# Altium footprint library 聚丙烯膜电容(CBB).PcbLib: 7 footprints
Each footprint in its own frame and in the unit in brackets; x right, y up, seen from the top. Pads: shape width x height; smd on the part's side, far side on the other; paste and mask are expansions set on the pad; w line width, h text height; cw(c..) or ccw(c..) is an arc to the next point about the centre after c.
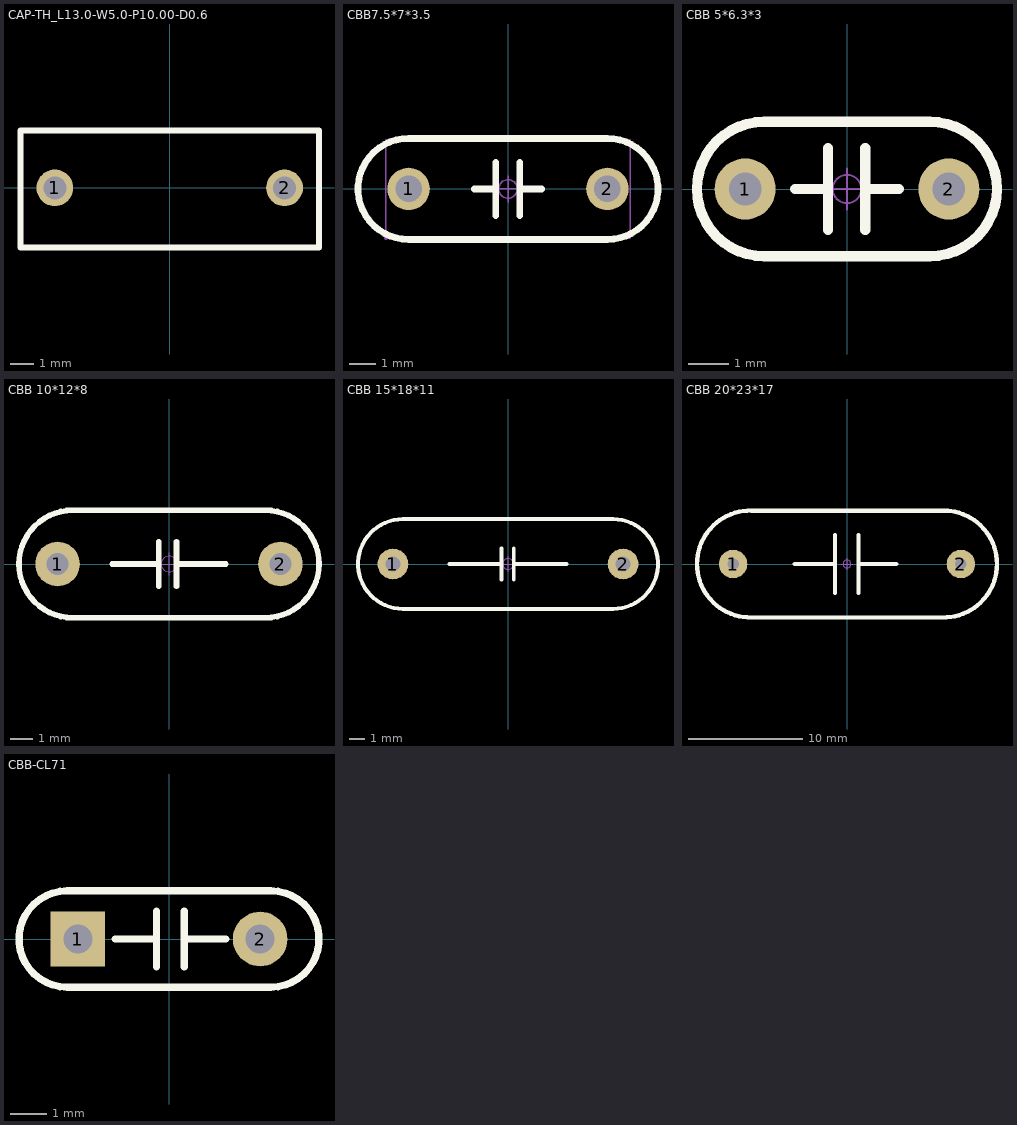
[diagram p0: the footprints below, top view; thin cyan lines are the x and y axes]

## CAP-TH_L13.0-W5.0-P10.00-D0.6 [mm]
pads (2):
  round 1.6 hole 1: 1(-5,0) 2(5,0)
Top Overlay:
  lines w0.254: -6.5,-2.6 6.5,-2.6 ; -6.5,-2.5 -6.5,2.5 6.5,2.5 6.5,-2.5
Mechanical 15:
  region: -6.44,-2.5 -6.44,-2.475 -6.475,-2.44 -6.525,-2.44 -6.56,-2.475 -6.56,-2.5 -6.56,-2.525 -6.525,-2.56 -6.475,-2.56 -6.44,-2.525 -6.44,-2.5
  region: 5.3,0 5.299,0.059 5.252,0.167 5.168,0.25 5.059,0.295 4.941,0.295 4.832,0.25 4.748,0.167 4.701,0.059 4.7,0 4.701,-0.059 4.748,-0.167 4.832,-0.25 4.941,-0.295 5.059,-0.295 5.168,-0.25 5.252,-0.167 5.299,-0.059 5.3,0
  region: -4.7,0 -4.701,0.059 -4.748,0.167 -4.832,0.25 -4.941,0.295 -5.059,0.295 -5.168,0.25 -5.252,0.167 -5.299,0.059 -5.3,0 -5.299,-0.059 -5.252,-0.167 -5.168,-0.25 -5.059,-0.295 -4.941,-0.295 -4.832,-0.25 -4.748,-0.167 -4.701,-0.059 -4.7,0
  lines w0.051: -6.5,-2.5 6.5,-2.5 6.5,2.5 -6.5,2.5 -6.5,-2.5
3D body "C6.step": height 11, standoff -3.5, extent -6.5,-2.5 6.5,2.501

## CBB7.5*7*3.5 [mm] "脚距7.5mm高7mm厚3.5mm"
pads (2):
  round 1.6 hole 1: 1(-3.75,0) 2(3.75,0)
Top Overlay:
  lines w0.254: -3.75,-1.905 cw(c-3.75,0) -3.75,1.905 ; -3.683,-1.905 3.683,-1.905 ; -3.683,1.905 3.683,1.905 ; -1.27,0 -0.555,0 ; -0.466,-1 -0.466,1 ; 0.445,-1 0.445,1 ; 0.461,0 1.27,0 ; 3.75,-1.905 ccw(c3.75,0) 3.75,1.905
Mechanical 15:
  circle w0.05: c0,0 r0.35
  region: -4.54,-1.85 -4.54,-1.825 -4.575,-1.79 -4.625,-1.79 -4.66,-1.825 -4.66,-1.85 -4.66,-1.875 -4.625,-1.91 -4.575,-1.91 -4.54,-1.875 -4.54,-1.85
  region: -3.35,0 -3.35,0.08 -3.411,0.227 -3.523,0.339 -3.67,0.4 -3.83,0.4 -3.977,0.339 -4.089,0.227 -4.15,0.08 -4.15,0 -4.15,-0.079 -4.089,-0.226 -3.977,-0.339 -3.83,-0.4 -3.671,-0.4 -3.524,-0.339 -3.411,-0.227 -3.35,-0.08 -3.35,0
  region: 4.15,0 4.15,0.08 4.089,0.227 3.977,0.339 3.83,0.4 3.671,0.4 3.523,0.339 3.411,0.227 3.35,0.08 3.35,0 3.35,-0.079 3.411,-0.226 3.523,-0.339 3.67,-0.4 3.83,-0.4 3.977,-0.339 4.089,-0.227 4.15,-0.08 4.15,0
  lines w0.05: -0.5,0 0.5,0 ; 0,-0.5 0,0.5
  lines w0.051: -4.6,-1.85 -4.6,1.85 4.6,1.85 4.6,-1.85 -4.6,-1.85
3D body "C2.step": height 9, standoff -3.5, extent -4.5,-1.75 4.5,1.751

## CBB 5*6.3*3 [mm] "脚距5mm高6.3mm厚3mm"
pads (2):
  round 1.5 hole 0.8: 1(-2.5,0) 2(2.5,0)
Top Overlay:
  lines w0.254: -1.27,0 -0.555,0 ; -0.466,-1 -0.466,1 ; 0.445,-1 0.445,1 ; 0.461,0 1.27,0 ; -2.032,-1.651 cw(c-2.032,0) -2.032,1.651 2.032,1.651 cw(c2.032,0) 2.032,-1.651 -2.032,-1.651
Mechanical 15:
  circle w0.05: c0,0 r0.35
  lines w0.05: -0.5,0 0.5,0 ; 0,-0.5 0,0.5
3D body "CBB 6.3X6.3X5.STEP": height 6.8, standoff -3.5, extent -3.15,-1.5 3.15,1.5

## CBB 10*12*8 [mm] "脚距10mm高12mm厚8mm"
pads (2):
  round 2 hole 1: 1(-5,0) 2(5,0)
Top Overlay:
  lines w0.254: -2.54,0 -0.555,0 ; -0.466,-1 -0.466,1 ; 0.334,-1 0.334,1 ; 0.461,0 2.54,0 ; -4.318,-2.413 cw(c-4.318,0) -4.318,2.413 4.318,2.413 cw(c4.318,0) 4.318,-2.413 -4.318,-2.413
Mechanical 15:
  circle w0.05: c0,0 r0.35
  lines w0.05: -0.5,0 0.5,0 ; 0,-0.5 0,0.5
3D body "CBB 10X12X8.STEP": height 8.53, standoff -3.47, extent -6,-2.25 6,2.25

## CBB 15*18*11 [mm] "脚距15mm高18mm厚11mm"
pads (2):
  round 2 hole 1: 1(-7.5,0) 2(7.5,0)
Top Overlay:
  lines w0.254: -6.858,-2.921 6.858,-2.921 ccw(c6.858,0) 6.857,2.921 -6.858,2.921 ccw(c-6.858,0) -6.857,-2.921 ; -3.81,0 -0.515,0 ; -0.426,-1 -0.426,1 ; 0.374,-1 0.374,1 ; 0.501,0 3.81,0
Mechanical 15:
  circle w0.05: c0,0 r0.35
  lines w0.05: -0.5,0 0.5,0 ; 0,-0.5 0,0.5
3D body "CBB 15X18X11.STEP": height 11.53, standoff -3.47, extent -9,-2.75 9,2.75

## CBB 20*23*17 [mm] "脚距20mm高23mm厚17mm"
pads (2):
  round 2.5 hole 1: 1(-10,0) 2(10,0)
Top Overlay:
  lines w0.381: -8.382,4.682 8.89,4.682 ; -8.382,4.691 ccw(c-8.476,0) -8.382,-4.691 8.382,-4.691 ccw(c8.476,0) 8.382,4.691 ; -4.572,0 -1.277,0 ; -1.054,-2.54 -1.054,2.54 ; 1.016,-2.54 1.016,2.54 ; 1.016,0 4.318,0
Mechanical 15:
  circle w0.05: c0,0 r0.35
  lines w0.05: -0.5,0 0.5,0 ; 0,-0.5 0,0.5
3D body "CBB 20X23X17.STEP": height 17.53, standoff -3.47, extent -11.5,-4.5 11.5,4.5

## CBB-CL71 [mm] "7.2mm*2.3mm*6.5mm(长*宽*高）"
pads (2):
  rect 1.5x1.5 hole 0.8: 1(-2.5,0)
  round 1.5 hole 0.8: 2(2.5,0)
Top Overlay:
  lines w0.2: -1.484,0 -0.341,0 ; -0.341,-0.762 -0.341,0.762 ; 0.421,-0.762 0.421,0.762 ; 0.421,0 1.564,0 ; -2.794,-1.321 cw(c-2.794,0) -2.794,1.321 2.794,1.321 cw(c2.794,0) 2.794,-1.321 -2.794,-1.321
3D body "CL71.STEP": height 6.55, standoff -3.45, extent -3.6,-1.15 3.6,1.15